# EAGLE library part STM_DEBUG (library sjg-stm32)
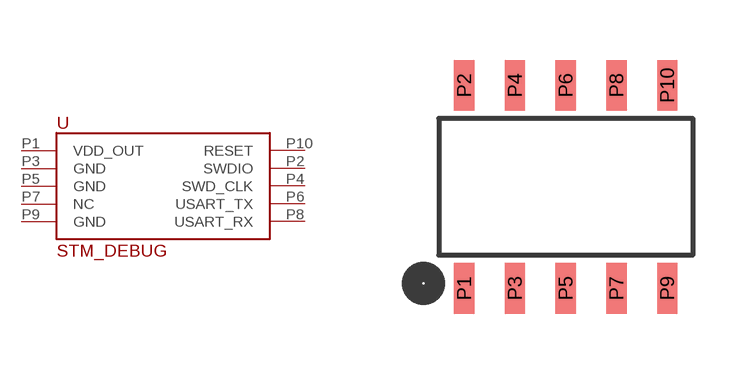
[diagram p1: symbol with the pads of SWD_DEBUG; footprint SWD_DEBUG]

Designator prefix -

## STM_DEBUG  [SWD_DEBUG]
P1  VDD_OUT
P2  SWDIO
P3  GND
P4  SWD_CLK
P5  GND
P6  USART_TX
P7  NC
P8  USART_RX
P9  GND
P10  RESET

## Footprint SWD_DEBUG (pad centres in mm)
smd 0.508 x 1.27: P1 -2.54,-2.54; P2 -2.54,2.54; P3 -1.27,-2.54; P4 -1.27,2.54; P5 0,-2.54; P6 0,2.54; P7 1.27,-2.54; P8 1.27,2.54; P9 2.54,-2.54; P10 2.54,2.54